# Altium footprint library RHDR8W69P254_2X4_1016X503X877P.PcbLib: 1 footprints
Each footprint in its own frame and in the unit in brackets; x right, y up, seen from the top. Pads: shape width x height; smd on the part's side, far side on the other; paste and mask are expansions set on the pad; w line width, h text height; cw(c..) or ccw(c..) is an arc to the next point about the centre after c.
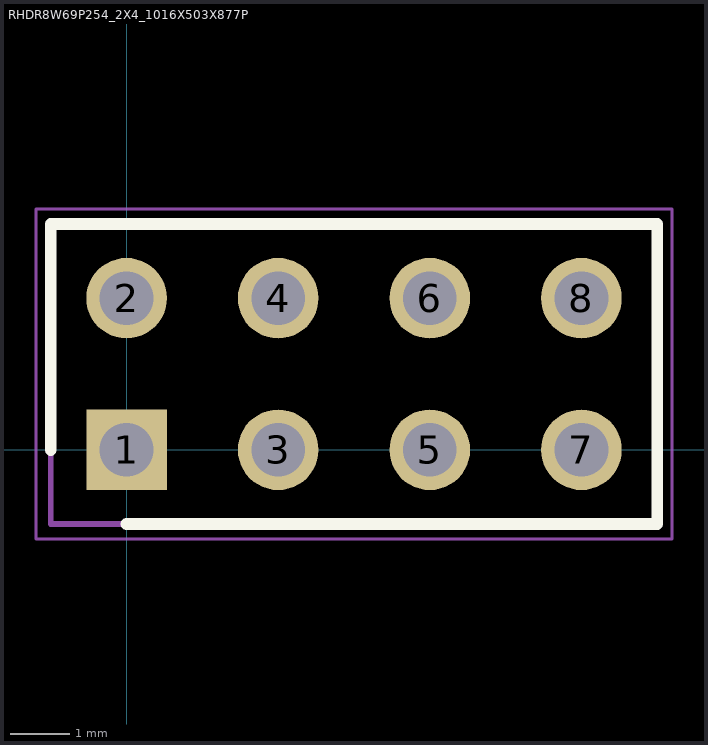
[diagram p0: the footprint, top view; thin cyan lines are the x and y axes]

## RHDR8W69P254_2X4_1016X503X877P [mm]
pads (8):
  rect 1.35x1.35 / inner round 1.35 / far side rect 1.35x1.35 hole 0.9: 1(0,0)
  round 1.35 hole 0.9: 2(0,2.54) 3(2.54,0) 4(2.54,2.54) 5(5.08,0) 6(5.08,2.54) 7(7.62,0) 8(7.62,2.54)
Top Overlay:
  lines w0.2: -1.27,0 -1.27,3.785 8.89,3.785 8.89,-1.245 0,-1.245
Mechanical 15:
  lines w0.1: -1.27,-1.245 -1.27,3.785 8.89,3.785 8.89,-1.245 -1.27,-1.245
Mechanical 20:
  lines w0.05: -1.52,-1.495 -1.52,4.035 9.14,4.035 9.14,-1.495 -1.52,-1.495